# Altium schematic symbol library Ind_TDK_MHQ1005PR51GT000_510nH.SchLib: 1 symbol
Pins are listed as number, name and electrical type; pins without a type are passive.

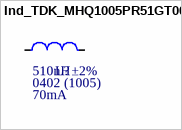
[diagram p0: symbol Ind_TDK_MHQ1005PR51GT000]

## Ind_TDK_MHQ1005PR51GT000
designator L?  Current Rating: 70mA  Tolerance: ±2%  Package: 0402 (1005)  Inductance: 510nH
IND 510nH Shielded Multilayer Inductor 70mA 10.2 Ohm Max 0402 (1005 Metric); Part Number: MHQ1005PR51GT000; Manufacturer: TDK; Value: 510.0nH; DC Resistance (DCR): 10.2Ohms; ComponentLink2Description: Datasheet; Temperature: -55°C to +125°C; ComponentLink2URL: https://product.tdk.com/info/en/catalog/datasheets/inductor_commercial_decoupling_mlz1608_en.pdf; RoHS: TRUE; Temperature Range High: +125°C; Lead Free: yes; Temperature Range Low: -55°C
footprint TDK_MHQ1005PR51GT000_0
pins: 1, 2